# EAGLE library part TXB0104RUTR (library TXB0104)
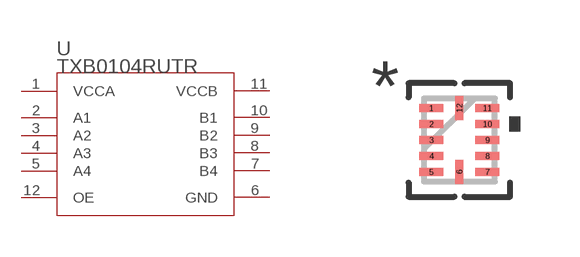
[diagram p0: symbol with the pads of RUT12; footprint RUT12]

Designator prefix U

## TXB0104RUTR (MANUFACTURER_PART_NUMBER: TXB0104RUTR; VENDOR: Texas Instruments)  [RUT12]
1  VCCA  pwr
2  A1
3  A2
4  A3
5  A4
6  GND  pwr
7  B4
8  B3
9  B2
10  B1
11  VCCB  pwr
12  OE  out

## Footprint RUT12 (pad centres in mm)
smd 0.6 x 0.2: 1 -0.7,0.8; 2 -0.7,0.4; 3 -0.7,0; 4 -0.7,-0.4; 5 -0.7,-0.8; 7 0.7,-0.8; 8 0.7,-0.4; 9 0.7,0; 10 0.7,0.4; 11 0.7,0.8
smd 0.2 x 0.6: 6 0,-0.8; 12 0,0.8